# Altium integrated library MF-MSMF260-2.IntLib: 1 symbol
Pins are listed as number, name and electrical type; pins without a type are passive.

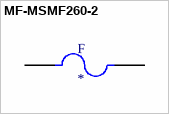
[diagram p0: symbol MF-MSMF260-2]

## MF-MSMF260-2
designator F
Polymeric PTC Resettable Fuse 6V 2.6A Ih Surface Mount 1812 (4532 Metric), Concave; MP: MF-MSMF260-2; MF: Bourns; Availability: Unavailable; Package: 1812 Bourns; Value: *; SnapEDA_Link: https://www.snapeda.com/parts/MF-MSMF260-2/Bourns/view-part/236893/?ref=snap; Price: None
footprint FUSE_MF-MSMF260-2
pins: 1, 2